# Altium footprint library PcbLib1.PcbLib: 1 footprints
Each footprint in its own frame and in the unit in brackets; x right, y up, seen from the top. Pads: shape width x height; smd on the part's side, far side on the other; paste and mask are expansions set on the pad; w line width, h text height; cw(c..) or ccw(c..) is an arc to the next point about the centre after c.
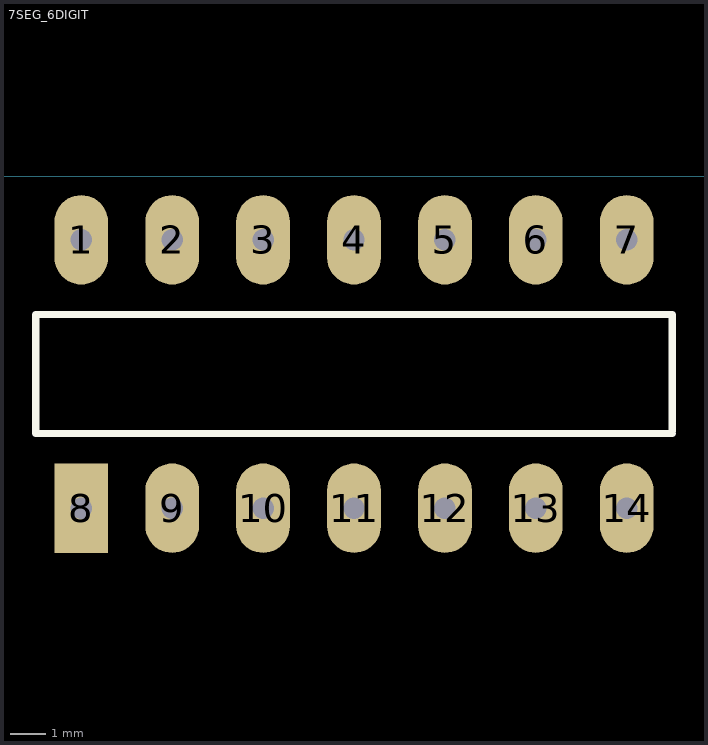
[diagram p0: the footprint, top view; thin cyan lines are the x and y axes]

## 7SEG_6DIGIT [mm]
pads (14):
  oval 1.5x2.5 hole 0.6: 1(12.657,-1.778) 2(15.197,-1.778) 3(17.737,-1.778) 4(20.277,-1.778) 5(22.817,-1.778) 6(25.357,-1.778) 7(27.897,-1.778) 9(15.197,-9.278) 10(17.737,-9.278) 11(20.277,-9.278) 12(22.817,-9.278) 13(25.357,-9.278) 14(27.897,-9.278)
  rect 1.5x2.5 hole 0.6: 8(12.657,-9.278)
Top Overlay:
  lines w0.2: 29.167,-7.193 11.387,-7.193 11.387,-3.863 29.167,-3.863 29.167,-7.112
3D body: height 6.1, standoff 0, extent 0,-11.1 41.16,0